# EAGLE library part MINI-MP3 (library FansElectronics-Modul)
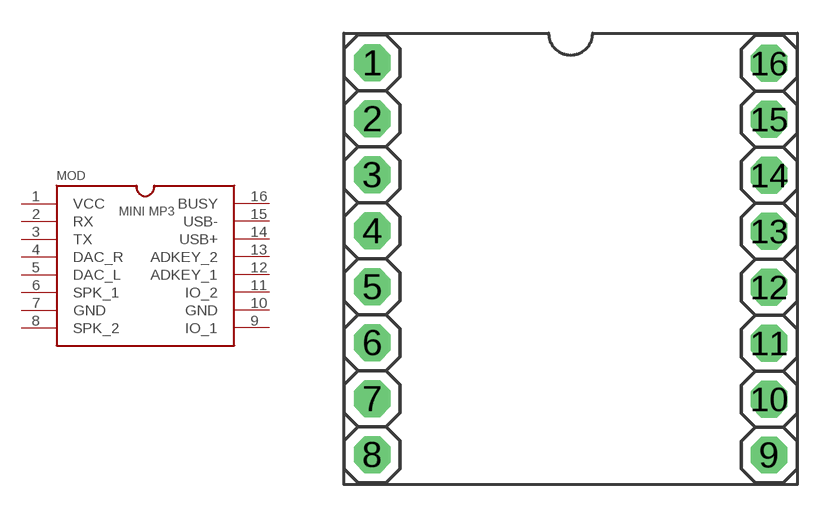
[diagram p8: symbol with the pads of MINI-MP3; footprint MINI-MP3]

Designator prefix MOD

## MINI-MP3  [MINI-MP3]
1  VCC  pwr
2  RX  in
3  TX  out
4  DAC_R
5  DAC_L
6  SPK_1  out
7  GND  pwr
8  SPK_2  out
9  IO_1
10  GND  pwr
11  IO_2
12  ADKEY_1
13  ADKEY_2
14  USB+
15  USB-
16  BUSY

## Footprint MINI-MP3 (pad centres in mm)
drill 1.016 pad 1.676 octagon: 1 -9.01,7.92; 2 -9.01,5.38; 3 -9.01,2.84; 4 -9.01,0.3; 5 -9.01,-2.24; 6 -9.01,-4.78; 7 -9.01,-7.32; 8 -9.01,-9.86; 9 9.01,-9.88; 10 9.01,-7.34; 11 9.01,-4.8; 12 9.01,-2.26; 13 9.01,0.28; 14 9.01,2.82; 15 9.01,5.36; 16 9.01,7.9